# EAGLE library part PTN78020-TH (library PTN78020)
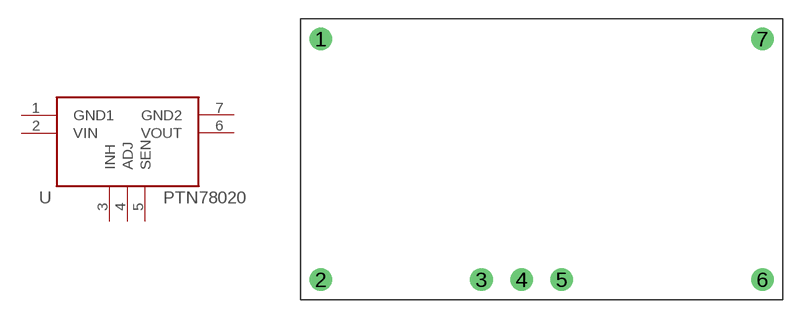
[diagram p0: symbol with the pads of PTN78020-TH; footprint PTN78020-TH]

Designator prefix -

## PTN78020-TH  [PTN78020-TH]
1  GND1
2  VIN
3  INH
4  ADJ
5  SEN
6  VOUT
7  GND2

## Footprint PTN78020-TH (pad centres in mm)
drill 1.2: 1 -17.462,9.525; 2 -17.462,-9.525; 3 -4.763,-9.525; 4 -1.587,-9.525; 5 1.587,-9.525; 6 17.462,-9.525; 7 17.462,9.525